# Altium schematic symbol library CAP-POLAR.SchLib: 1 symbol
Pins are listed as number, name and electrical type; pins without a type are passive.

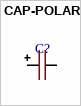
[diagram p0: symbol CAP-POLAR]

## CAP-POLAR
designator C?
footprint CAPPOL-30x35
footprint CAPPOL8x12
footprint CAPPOL-12x25
footprint CAPPOL-10x20
footprint Model Name (Footprint not found)
footprint CAP-TAN-A
footprint CAP-TAN-B
footprint CAP-TAN-B2
footprint CAP-TAN-C
footprint CAP-TAN-D
footprint CAP-TAN-R
footprint CAP-TAN-X
footprint CAP 100uF_500V 22x40mm
footprint CAPPOL-16x25
pins: 1 +, 2 -